# Altium footprint library DRV8833C_HTSSOP.PcbLib: 3 footprints
Each footprint in its own frame and in the unit in brackets; x right, y up, seen from the top. Pads: shape width x height; smd on the part's side, far side on the other; paste and mask are expansions set on the pad; w line width, h text height; cw(c..) or ccw(c..) is an arc to the next point about the centre after c.
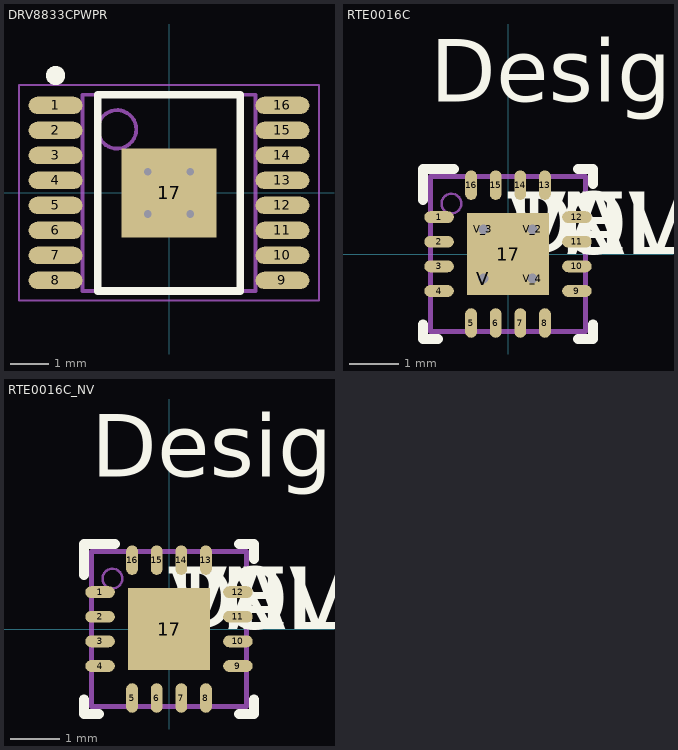
[diagram p0: the footprints below, top view; thin cyan lines are the x and y axes]

## DRV8833CPWPR [mm] "HTSSOP (PWP) for DRV8833C 1A Low Voltage Stepper or Single/Dual Brushed DC Motor Driver (PWM Ctrl)"
height 1.2
pads (17):
  oval 1.4x0.45 smd: 1(-2.95,2.275) 2(-2.95,1.625) 3(-2.95,0.975) 4(-2.95,0.325) 5(-2.95,-0.325) 6(-2.95,-0.975) 7(-2.95,-1.625) 8(-2.95,-2.275) 9(2.95,-2.275) 10(2.95,-1.625) 11(2.95,-0.975) 12(2.95,-0.325) 13(2.95,0.325) 14(2.95,0.975) 15(2.95,1.625) 16(2.95,2.275)
  rect 2.46x2.31 smd: 17(0,0)
via 0.55,-0.55 diameter 0.5 hole 0.2
via -0.55,-0.55 diameter 0.5 hole 0.2
via 0.55,0.55 diameter 0.5 hole 0.2
via -0.55,0.55 diameter 0.5 hole 0.2
Top Overlay:
  circle w0.25: c-2.95,3.05 r0.125
  lines w0.2: -1.85,-2.55 1.85,-2.55 1.85,2.55 -1.85,2.55 -1.85,-2.55
Mechanical 13:
  circle w0.1: c-1.35,1.65 r0.5
  lines w0.1: -2.25,-2.55 2.25,-2.55 2.25,2.55 -2.25,2.55 -2.25,-2.55
Mechanical 15:
  lines w0.05: -3.9,-2.8 3.9,-2.8 3.9,2.8 -3.9,2.8 -3.9,-2.8
  lines w0.1: -0.5,0 0.5,0 ; 0,-0.5 0,0.5
3D body: height 0.99, standoff -0.01, extent -3.209,-2.5 3.209,2.5

## RTE0016C [mm]
pads (21):
  oval 0.6x0.24 smd paste+0 mask+0.051: 1(-1.4,0.75) 2(-1.4,0.25) 3(-1.4,-0.25) 4(-1.4,-0.75) 9(1.4,-0.75) 10(1.4,-0.25) 11(1.4,0.25) 12(1.4,0.75)
  oval 0.24x0.6 smd paste+0 mask+0.051: 5(-0.75,-1.4) 6(-0.25,-1.4) 7(0.25,-1.4) 8(0.75,-1.4) 13(0.75,1.4) 14(0.25,1.4) 15(-0.25,1.4) 16(-0.75,1.4)
  rect 1.66x1.66 smd paste-0.817 mask+0.051: 17(0,0)
  round 0.5 / inner round 1.524 / far side round 0.5 hole 0.203 mask+0.051: V(-0.5,-0.5) V_2(0.5,0.5) V_3(-0.5,0.5) V_4(0.5,-0.5)
Top Overlay:
  lines w0.2: -1.725,-1.425 -1.725,-1.725 -1.425,-1.725 ; -1.725,1.1 -1.725,1.725 -1.1,1.725 ; 1.425,-1.725 1.725,-1.725 1.725,-1.425 ; 1.425,1.725 1.725,1.725 1.725,1.425
  text "DEV" at 0,0 h1.27
  text "PN" at 0,0 h1.27
  text "VAL" at 0,0 h1.27
  text "TOL" at 0,0 h1.27
  text "Designator38" at -1.575,3.099 h1.27
Top Paste:
  region: -0.756,0.756 -0.756,-0.756 0.756,-0.756 0.756,0.756
Mechanical 1:
  circle w0.05: c-1.15,1.025 r0.2
  lines w0.1: -1.575,-1.575 -1.575,1.575 1.575,1.575 1.575,-1.575 -1.575,-1.575
  text ".Designator" at -1.4,-0.4 h1.27

## RTE0016C_NV [mm]
pads (17):
  oval 0.6x0.24 smd paste+0 mask+0.051: 1(-1.4,0.75) 2(-1.4,0.25) 3(-1.4,-0.25) 4(-1.4,-0.75) 9(1.4,-0.75) 10(1.4,-0.25) 11(1.4,0.25) 12(1.4,0.75)
  oval 0.24x0.6 smd paste+0 mask+0.051: 5(-0.75,-1.4) 6(-0.25,-1.4) 7(0.25,-1.4) 8(0.75,-1.4) 13(0.75,1.4) 14(0.25,1.4) 15(-0.25,1.4) 16(-0.75,1.4)
  rect 1.66x1.66 smd paste-0.817 mask+0.051: 17(0,0)
Top Overlay:
  lines w0.2: -1.725,-1.425 -1.725,-1.725 -1.425,-1.725 ; -1.725,1.1 -1.725,1.725 -1.1,1.725 ; 1.425,-1.725 1.725,-1.725 1.725,-1.425 ; 1.425,1.725 1.725,1.725 1.725,1.425
  text "Designator39" at -1.575,3.099 h1.27
  text "TOL" at 0,0 h1.27
  text "VAL" at 0,0 h1.27
  text "PN" at 0,0 h1.27
  text "DEV" at 0,0 h1.27
Top Paste:
  region: -0.756,0.756 -0.756,-0.756 0.756,-0.756 0.756,0.756
Mechanical 1:
  circle w0.05: c-1.15,1.025 r0.2
  lines w0.1: -1.575,-1.575 1.575,-1.575 1.575,1.575 -1.575,1.575 -1.575,-1.575
  text ".Designator" at -1.4,-0.4 h1.27